# EAGLE library part STM32F105VBH6 (library circuit_tree)
IC
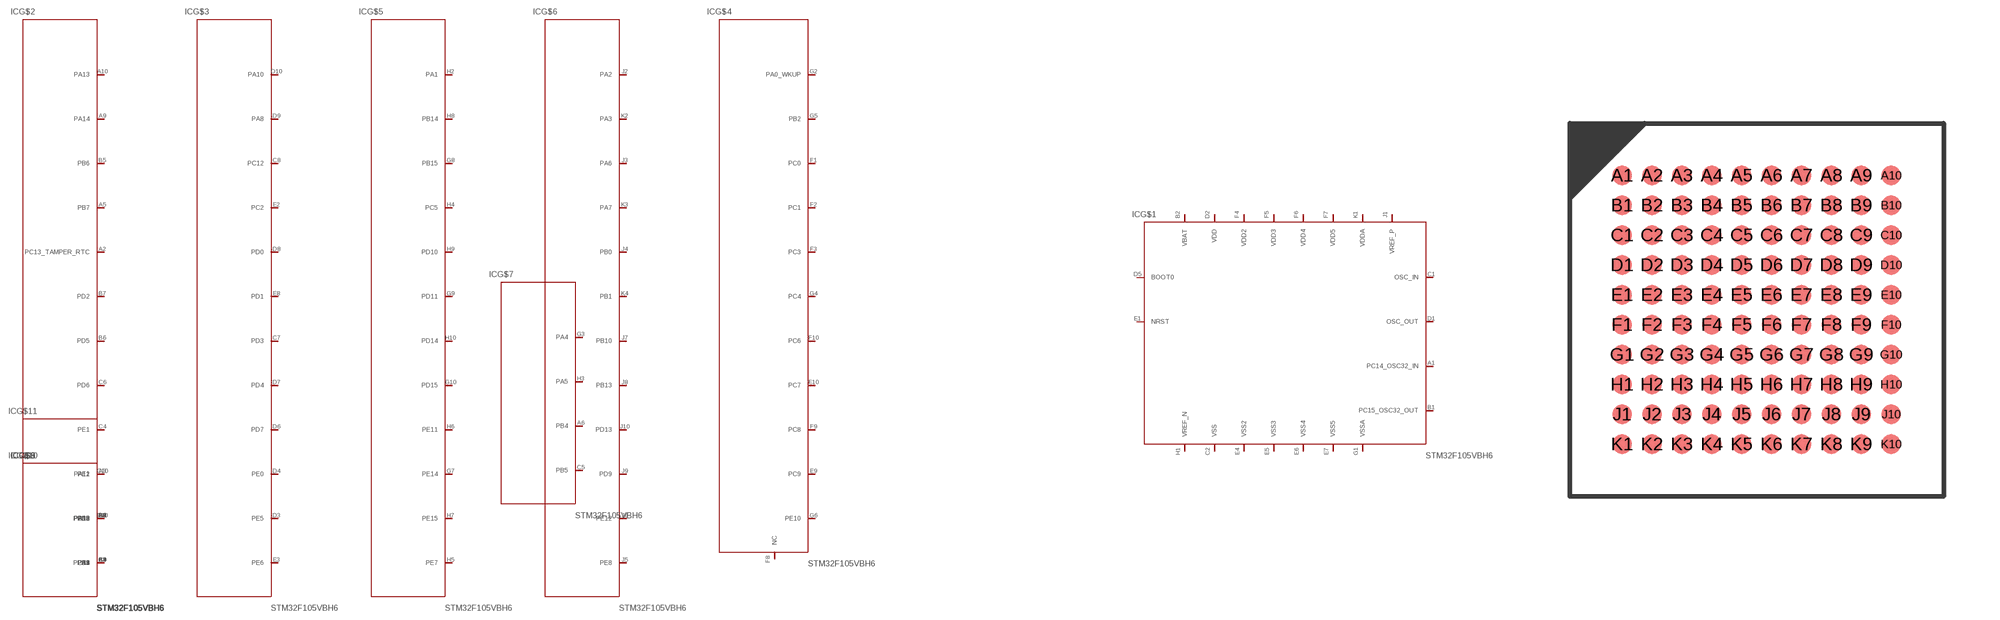
[diagram p7: symbol with the pads of LFBGA100; footprint LFBGA100]

Designator prefix IC; gates G$1=STM32F105VBH6 G$2=STM32F105VBH62 G$3=STM32F105VBH63 G$4=STM32F105VBH64 G$5=STM32F105VBH65 G$6=STM32F105VBH66 G$7=STM32F105VBH67 G$8=STM32F105VBH68 G$9=STM32F105VBH69 G$10=STM32F105VBH610 G$11=STM32F105VBH611

## STM32F105VBH6  [LFBGA100]
A1  G$1:PC14_OSC32_IN  pas
A2  G$2:PC13_TAMPER_RTC  pas
A3  G$2:PE2  pas
A4  G$10:PB9  pas
A5  G$2:PB7  pas
A6  G$7:PB4  pas
A7  G$9:PB3  pas
A8  G$9:PA15  pas
A9  G$2:PA14  pas
A10  G$2:PA13  pas
B1  G$1:PC15_OSC32_OUT  pas
B2  G$1:VBAT  pas
B3  G$2:PE3  pas
B4  G$10:PB8  pas
B5  G$2:PB6  pas
B6  G$2:PD5  pas
B7  G$2:PD2  pas
B8  G$8:PC11  pas
B9  G$8:PC10  pas
B10  G$11:PA12  pas
C1  G$1:OSC_IN  pas
C2  G$1:VSS  pas
C3  G$2:PE4  pas
C4  G$2:PE1  pas
C5  G$7:PB5  pas
C6  G$2:PD6  pas
C7  G$3:PD3  pas
C8  G$3:PC12  pas
C9  G$11:PA9  pas
C10  G$11:PA11  pas
D1  G$1:OSC_OUT  pas
D2  G$1:VDD  pas
D3  G$3:PE5  pas
D4  G$3:PE0  pas
D5  G$1:BOOT0  pas
D6  G$3:PD7  pas
D7  G$3:PD4  pas
D8  G$3:PD0  pas
D9  G$3:PA8  pas
D10  G$3:PA10  pas
E1  G$1:NRST  pas
E2  G$3:PC2  pas
E3  G$3:PE6  pas
E4  G$1:VSS2  pas
E5  G$1:VSS3  pas
E6  G$1:VSS4  pas
E7  G$1:VSS5  pas
E8  G$3:PD1  pas
E9  G$4:PC9  pas
E10  G$4:PC7  pas
F1  G$4:PC0  pas
F2  G$4:PC1  pas
F3  G$4:PC3  pas
F4  G$1:VDD2  pas
F5  G$1:VDD3  pas
F6  G$1:VDD4  pas
F7  G$1:VDD5  pas
F8  G$4:NC  pas
F9  G$4:PC8  pas
F10  G$4:PC6  pas
G1  G$1:VSSA  pas
G2  G$4:PA0_WKUP  pas
G3  G$7:PA4  pas
G4  G$4:PC4  pas
G5  G$4:PB2  pas
G6  G$4:PE10  pas
G7  G$5:PE14  pas
G8  G$5:PB15  pas
G9  G$5:PD11  pas
G10  G$5:PD15  pas
H1  G$1:VREF_N  pas
H2  G$5:PA1  pas
H3  G$7:PA5  pas
H4  G$5:PC5  pas
H5  G$5:PE7  pas
H6  G$5:PE11  pas
H7  G$5:PE15  pas
H8  G$5:PB14  pas
H9  G$5:PD10  pas
H10  G$5:PD14  pas
J1  G$1:VREF_P  pas
J2  G$6:PA2  pas
J3  G$6:PA6  pas
J4  G$6:PB0  pas
J5  G$6:PE8  pas
J6  G$6:PE12  pas
J7  G$6:PB10  pas
J8  G$6:PB13  pas
J9  G$6:PD9  pas
J10  G$6:PD13  pas
K1  G$1:VDDA  pas
K2  G$6:PA3  pas
K3  G$6:PA7  pas
K4  G$6:PB1  pas

## Footprint LFBGA100 (pad centres in mm)
LFBGA100 10 x 10 mm, 10 x 10-pin low profil 0.8 mm pitch ball grid array package
smd 0.52 x 0.52: A1 -3.6,3.6; A2 -2.8,3.6; A3 -2,3.6; A4 -1.2,3.6; A5 -0.4,3.6; A6 0.4,3.6; A7 1.2,3.6; A8 2,3.6; A9 2.8,3.6; A10 3.6,3.6; B1 -3.6,2.8; B2 -2.8,2.8; B3 -2,2.8; B4 -1.2,2.8; B5 -0.4,2.8; B6 0.4,2.8; B7 1.2,2.8; B8 2,2.8; B9 2.8,2.8; B10 3.6,2.8; C1 -3.6,2; C2 -2.8,2; C3 -2,2; C4 -1.2,2; C5 -0.4,2; C6 0.4,2; C7 1.2,2; C8 2,2; C9 2.8,2; C10 3.6,2; D1 -3.6,1.2; D2 -2.8,1.2; D3 -2,1.2; D4 -1.2,1.2; D5 -0.4,1.2; D6 0.4,1.2; D7 1.2,1.2; D8 2,1.2; D9 2.8,1.2; D10 3.6,1.2; E1 -3.6,0.4; E2 -2.8,0.4; E3 -2,0.4; E4 -1.2,0.4; E5 -0.4,0.4; E6 0.4,0.4; E7 1.2,0.4; E8 2,0.4; E9 2.8,0.4; E10 3.6,0.4; F1 -3.6,-0.4; F2 -2.8,-0.4; F3 -2,-0.4; F4 -1.2,-0.4; F5 -0.4,-0.4; F6 0.4,-0.4; F7 1.2,-0.4; F8 2,-0.4; F9 2.8,-0.4; F10 3.6,-0.4; G1 -3.6,-1.2; G2 -2.8,-1.2; G3 -2,-1.2; G4 -1.2,-1.2; G5 -0.4,-1.2; G6 0.4,-1.2; G7 1.2,-1.2; G8 2,-1.2; G9 2.8,-1.2; G10 3.6,-1.2; H1 -3.6,-2; H2 -2.8,-2; H3 -2,-2; H4 -1.2,-2; H5 -0.4,-2; H6 0.4,-2; H7 1.2,-2; H8 2,-2; H9 2.8,-2; H10 3.6,-2; J1 -3.6,-2.8; J2 -2.8,-2.8; J3 -2,-2.8; J4 -1.2,-2.8; J5 -0.4,-2.8; J6 0.4,-2.8; J7 1.2,-2.8; J8 2,-2.8; J9 2.8,-2.8; J10 3.6,-2.8; K1 -3.6,-3.6; K2 -2.8,-3.6; K3 -2,-3.6; K4 -1.2,-3.6; K5 -0.4,-3.6; K6 0.4,-3.6; K7 1.2,-3.6; K8 2,-3.6; K9 2.8,-3.6; K10 3.6,-3.6